# Altium footprint library LPS25HBTR.PcbLib: 1 footprints
Each footprint in its own frame and in the unit in brackets; x right, y up, seen from the top. Pads: shape width x height; smd on the part's side, far side on the other; paste and mask are expansions set on the pad; w line width, h text height; cw(c..) or ccw(c..) is an arc to the next point about the centre after c.
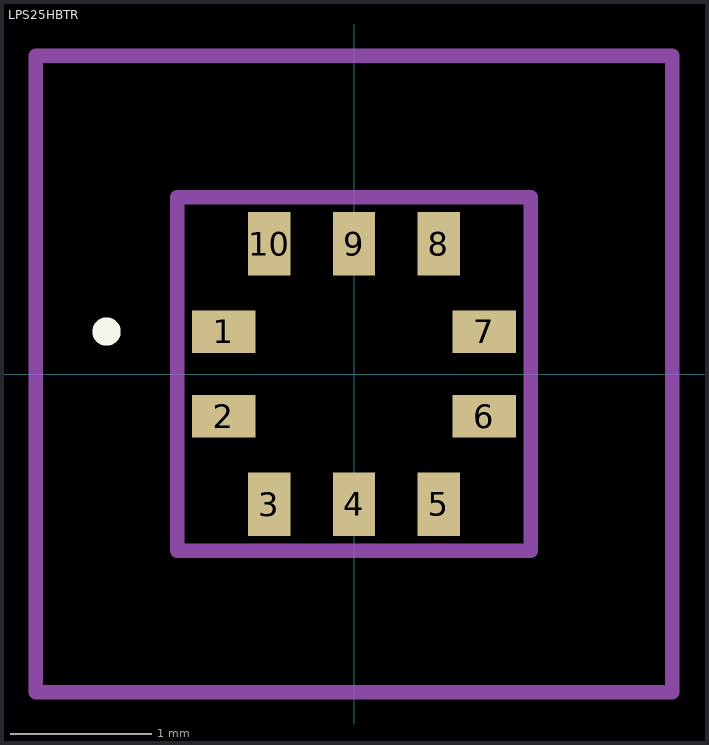
[diagram p0: the footprint, top view; thin cyan lines are the x and y axes]

## LPS25HBTR [mm]
pads (10):
  rect 0.45x0.3 smd: 1(-0.92,0.3) 2(-0.92,-0.3) 6(0.92,-0.3) 7(0.92,0.3)
  rect 0.3x0.45 smd: 3(-0.6,-0.92) 4(0,-0.92) 5(0.6,-0.92) 8(0.6,0.92) 9(0,0.92) 10(-0.6,0.92)
Top Overlay:
  lines w0.1: -1.8,0.3 -1.8,0.3 ; -1.8,0.3 ccw(c-1.75,0.3) -1.7,0.3 ; -1.8,0.3 cw(c-1.75,0.3) -1.7,0.3 ; -1.7,0.3 -1.7,0.3
Mechanical 15:
  lines w0.1: -1.25,-1.25 1.25,-1.25 1.25,1.25 -1.25,1.25 -1.25,-1.25
Mechanical 20:
  lines w0.1: -2.25,-2.25 2.25,-2.25 2.25,2.25 -2.25,2.25 -2.25,-2.25